# Altium schematic symbol library AS5600.SchLib: 15 symbols
Pins are listed as number, name and electrical type; pins without a type are passive.

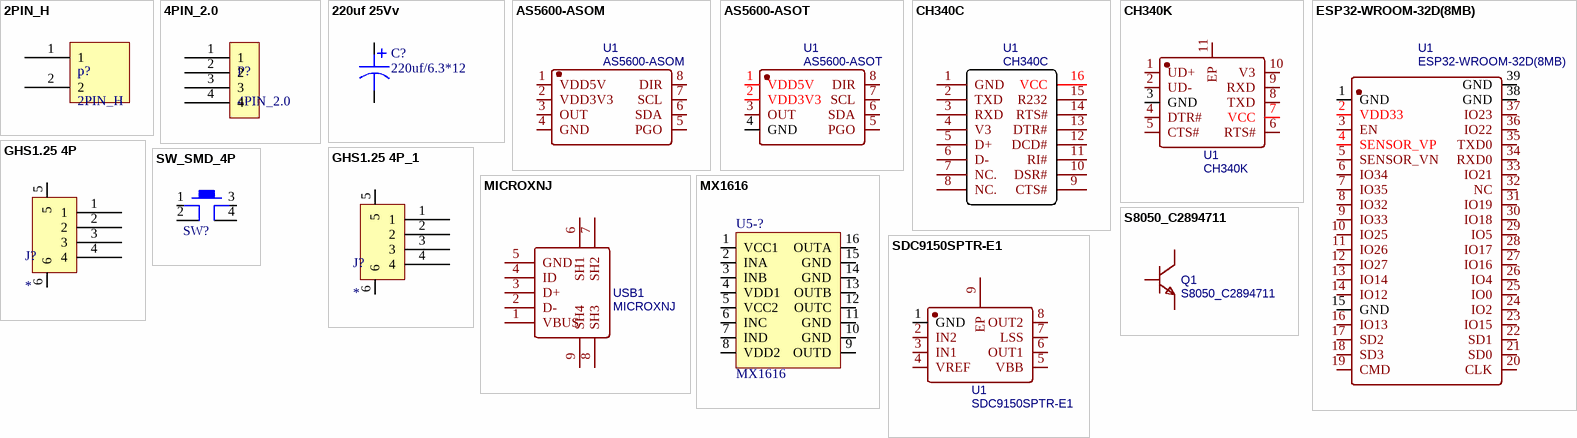
[diagram p0: symbols 2PIN_H to SW_SMD_4P]

## 2PIN_H
designator p?
footprint CONN-TH_XH-2A
pins: 1, 2

## 4PIN_2.0
designator P?
footprint 4PIN_2MM
pins: 1, 2, 3, 4

## 220uf 25Vv
designator C?, comment 220uf/6.3*12
footprint 220UF_25V
pins: 1, 2

## AS5600-ASOM
designator U1
BOM_Manufacturer: Ams; BOM_Supplier: LCSC; BOM_Manufacturer Part: AS5600-ASOM; BOM_Supplier Part: C79815; BOM_JLCPCB Part Class: Extended Part; spicePre: U; spiceSymbolName: AS5600-ASOM
footprint AS5600-ASOM
pins: 1 VDD5V, 2 VDD3V3, 3 OUT, 4 GND, 5 PGO, 6 SDA, 7 SCL, 8 DIR

## AS5600-ASOT
designator U1
BOM_Manufacturer: Advanced Monolithic Systems; Contributor: LCSC; BOM_Supplier: LCSC; BOM_Supplier Part: C499458; BOM_Manufacturer Part: AS5600-ASOT; BOM_JLCPCB Part Class: Extended Part; spicePre: U; spiceSymbolName: AS5600-ASOT
footprint AS5600-ASOT
pins: 1 VDD5V, 2 VDD3V3, 3 OUT, 4 GND, 5 PGO, 6 SDA, 7 SCL, 8 DIR

## CH340C
designator U1
BOM_Manufacturer: WCH; BOM_Supplier: LCSC; BOM_Manufacturer Part: CH340C; BOM_Supplier Part: C84681; BOM_JLCPCB Part Class: Extended Part; spicePre: U; spiceSymbolName: CH340C
footprint CH340C
pins: 1 GND, 2 TXD, 3 RXD, 4 V3, 5 D+, 6 D-, 7 NC., 8 NC., 9 CTS#, 10 DSR#, 11 RI#, 12 DCD#, 13 DTR#, 14 RTS#, 15 R232, 16 VCC

## CH340K
designator U1
BOM_Manufacturer: WCH(Jiangsu Qin Heng); Contributor: LCSC; BOM_Supplier: LCSC; BOM_Supplier Part: C968586; BOM_Manufacturer Part: CH340K; BOM_JLCPCB Part Class: Extended Part; spicePre: U; spiceSymbolName: CH340K
footprint CH340K
pins: 1 UD+, 2 UD-, 3 GND, 4 DTR#, 5 CTS#, 6 RTS#, 7 VCC, 8 TXD, 9 RXD, 10 V3, 11 EP

## ESP32-WROOM-32D(8MB)
designator U1
BOM_Manufacturer: Espressif Systems; Contributor: LCSC; BOM_Supplier: LCSC; BOM_Supplier Part: C529577; BOM_Manufacturer Part: ESP32-WROOM-32D(8MB); BOM_JLCPCB Part Class: Extended Part; spicePre: U; spiceSymbolName: ESP32-WROOM-32D(8MB)
footprint ESP-WROOM-32D
pins: 1 GND, 2 VDD33, 3 EN, 4 SENSOR_VP, 5 SENSOR_VN, 6 IO34, 7 IO35, 8 IO32, 9 IO33, 10 IO25, 11 IO26, 12 IO27, 13 IO14, 14 IO12, 15 GND, 16 IO13, 17 SD2, 18 SD3, 19 CMD, 20 CLK, 21 SD0, 22 SD1, 23 IO15, 24 IO2, 25 IO0, 26 IO4, 27 IO16, 28 IO17, 29 IO5, 30 IO18, 31 IO19, 32 NC, 33 IO21, 34 RXD0, 35 TXD0, 36 IO22, 37 IO23, 38 GND, 39 GND

## GHS1.25 4P
designator J?
立式
footprint SM04B-GHS立式
pins: 1, 2, 3, 4, 5, 6

## GHS1.25 4P_1
designator J?
卧式
footprint SM04B-GHS卧式
pins: 1, 2, 3, 4, 5, 6

## MICROXNJ
designator USB1
BOM_Manufacturer: SHOU HAN; Contributor: LCSC; BOM_Supplier: LCSC; BOM_Supplier Part: C404969; BOM_Manufacturer Part: MicroXNJ; BOM_JLCPCB Part Class: Extended Part; spicePre: U; spiceSymbolName: MICROXNJ
footprint MICRO-USB-SMD_MICROXNJ
pins: 1 VBUS, 2 D-, 3 D+, 4 ID, 5 GND, 6 SH1, 7 SH2, 8 SH3, 9 SH4

## MX1616
designator U5-?
footprint MX1616
pins: 1 VCC1, 2 INA, 3 INB, 4 VDD1, 5 VCC2, 6 INC, 7 IND, 8 VDD2, 9 OUTD, 10 GND, 11 GND, 12 OUTC, 13 OUTB, 14 GND, 15 GND, 16 OUTA

## S8050_C2894711
designator Q1
BOM_Manufacturer: PUOLOP(迪浦); BOM_Manufacturer Part: S8050; Contributor: LCSC; BOM_Supplier: LCSC; BOM_Supplier Part: C2894711; spicePre: Q; spiceSymbolName: S8050_C2894711
footprint S8050
pins: 1 B, 2 E, 3 C

## SDC9150SPTR-E1
designator U1
BOM_Manufacturer: 光大芯业; Contributor: LCSC; BOM_Supplier: LCSC; BOM_Supplier Part: C724257; BOM_Manufacturer Part: SDC9150SPTR-E1; BOM_JLCPCB Part Class: Extended Part; spicePre: U; spiceSymbolName: SDC9150SPTR-E1
footprint SDC9150
pins: 1 GND, 2 IN2, 3 IN1, 4 VREF, 5 VBB, 6 OUT1, 7 LSS, 8 OUT2, 9 EP

## SW_SMD_4P
designator SW?, comment 按键开关  (value not drawn)
footprint SW_SMD_4P_2
pins: 1, 2, 3, 4